# EAGLE library part REG_MCP1727 (library akita)
Microchip MCP1727, LDO
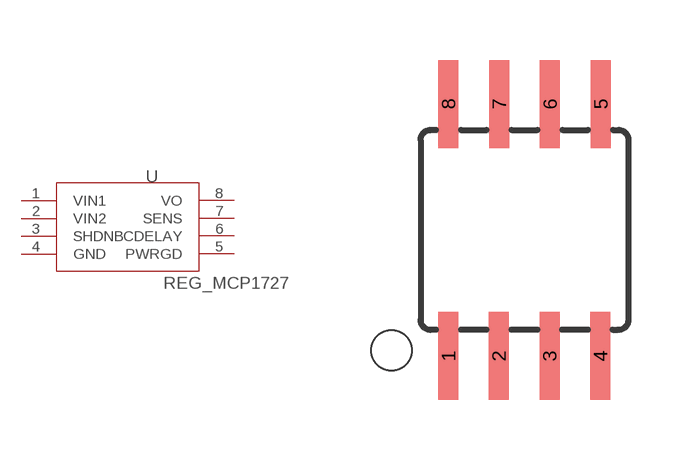
[diagram p191: symbol with the pads of SOIC8; footprint SOIC8]

Designator prefix -

## REG_MCP1727  [SOIC8]
1  VIN1
2  VIN2
3  SHDNB
4  GND
5  PWRGD
6  CDELAY
7  SENS
8  VO

## Footprint SOIC8 (pad centres in mm)
Wide Plastic Gull Wing Small Outline Package
smd 0.5 x 2.2: 1 -1.905,-3.154; 2 -0.645,-3.154; 3 0.625,-3.154; 4 1.895,-3.154; 5 1.905,3.154; 6 0.635,3.154; 7 -0.635,3.154; 8 -1.905,3.154